# Altium footprint library SW-TH_VPG1S-02H-R.PcbLib: 1 footprints
Each footprint in its own frame and in the unit in brackets; x right, y up, seen from the top. Pads: shape width x height; smd on the part's side, far side on the other; paste and mask are expansions set on the pad; w line width, h text height; cw(c..) or ccw(c..) is an arc to the next point about the centre after c.
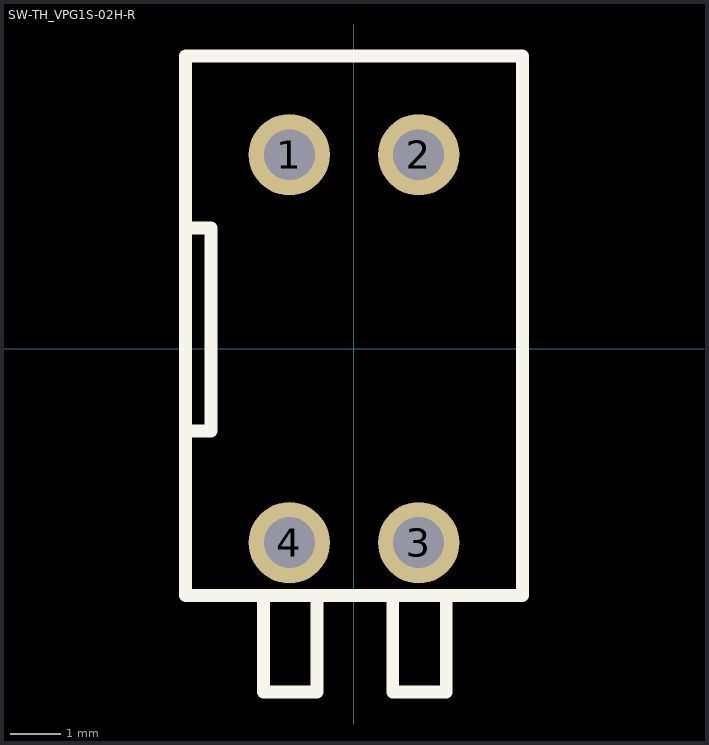
[diagram p0: the footprint, top view; thin cyan lines are the x and y axes]

## SW-TH_VPG1S-02H-R [mm]
pads (4):
  round 1.6 hole 1: 1(-1.27,3.81) 2(1.27,3.81) 3(1.27,-3.81) 4(-1.27,-3.81)
Top Overlay:
  lines w0.254: -3.31,-1.62 -2.81,-1.62 -2.81,2.37 -3.31,2.37 ; -1.777,-4.847 -1.777,-6.747 -0.727,-6.747 -0.727,-4.846 ; 0.762,-4.846 0.762,-6.747 1.812,-6.747 1.812,-4.846 ; -3.31,-4.847 -3.31,5.753 3.31,5.753 3.31,-4.847 -3.31,-4.847